# Altium footprint library Footprints.PcbLib: 37 footprints (part 3 of 3)
Each footprint in its own frame and in the unit in brackets; x right, y up, seen from the top. Pads: shape width x height; smd on the part's side, far side on the other; paste and mask are expansions set on the pad; w line width, h text height; cw(c..) or ccw(c..) is an arc to the next point about the centre after c.
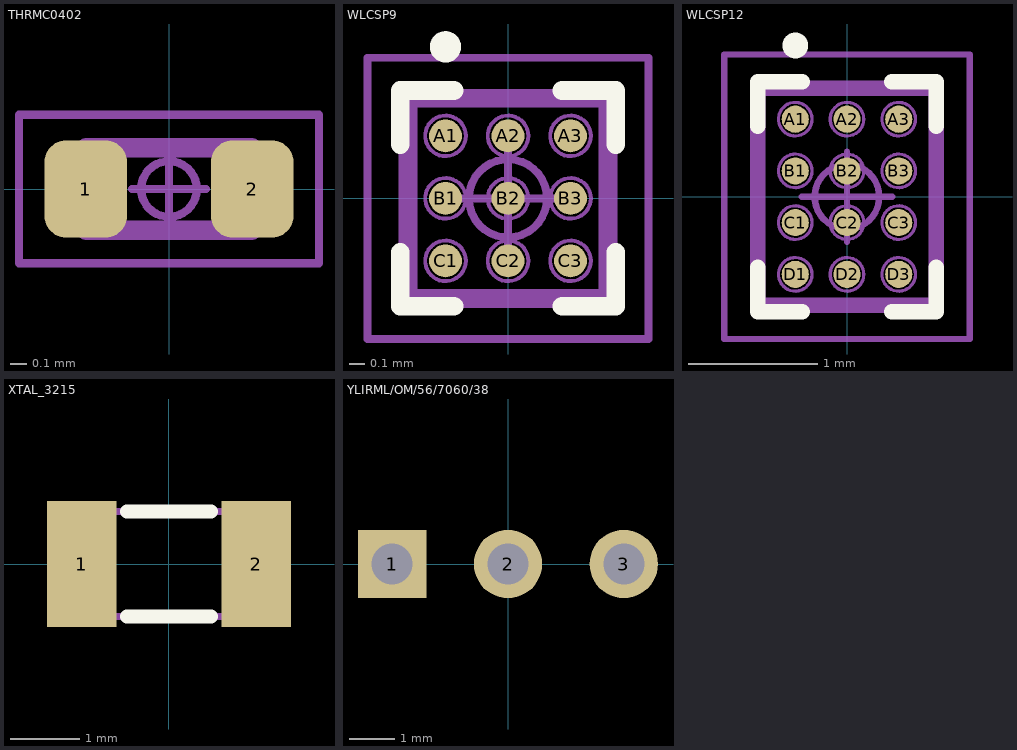
[diagram p2: the footprints below, top view; thin cyan lines are the x and y axes]

## THRMC0402 [mm] "THRMC0402"
height 0.35
pads (2):
  rrect52% 0.5x0.59 smd: 1(-0.505,0) 2(0.505,0)
Assembly Top:
  lines w0.12: -0.5,-0.25 -0.5,0.25 0.5,0.25 0.5,-0.25 -0.5,-0.25
3D Top:
  lines w0.025: -0.5,-0.25 -0.5,0.25 ; -0.5,-0.25 0.5,-0.25 ; -0.5,-0.25 -0.3,-0.25 -0.3,0.25 -0.5,0.25 ; -0.5,-0.25 -0.5,0.25 ; -0.5,0.25 0.5,0.25 ; 0.5,-0.25 0.5,0.25 ; 0.5,-0.25 0.5,0.25 ; 0.5,-0.25 0.3,-0.25 0.3,0.25 0.5,0.25
Courtyard Top:
  circle w0.05: c0,0 r0.169
  lines w0.05: -0.225,0 0.225,0 ; 0,-0.225 0,0.225 ; -0.91,-0.45 -0.91,0.45 0.91,0.45 0.91,-0.45 -0.91,-0.45
3D body "THRMC0402.STEP": height 0.35, standoff 0, extent -0.5,-0.25 0.5,0.25

## WLCSP9 [mm] "WLCSP9"
height 0.565
pads (9):
  round 0.21 smd: A1(-0.4,0.4) A2(0,0.4) A3(0.4,0.4) B1(-0.4,0) B2(0,0) B3(0.4,0) C1(-0.4,-0.4) C2(0,-0.4) C3(0.4,-0.4)
Top Overlay:
  circle w0.1: c-0.4,0.97 r0.05
  lines w0.12: -0.69,-0.345 -0.69,-0.69 -0.345,-0.69 ; -0.69,0.345 -0.69,0.69 -0.345,0.69 ; 0.345,-0.69 0.69,-0.69 0.69,-0.345 ; 0.345,0.69 0.69,0.69 0.69,0.345
Assembly Top:
  lines w0.12: -0.64,-0.64 0.64,-0.64 0.64,0.64 -0.64,0.64 -0.64,-0.64
3D Top:
  circle w0.025: c0.4,-0.4 r0.13
  circle w0.025: c0,-0.4 r0.13
  circle w0.025: c-0.4,-0.4 r0.13
  circle w0.025: c0.4,0 r0.13
  circle w0.025: c0,0 r0.13
  circle w0.025: c-0.4,0 r0.13
  circle w0.025: c0.4,0.4 r0.13
  circle w0.025: c0,0.4 r0.13
  circle w0.025: c-0.4,0.4 r0.13
  lines w0.025: -0.62,-0.62 0.62,-0.62 0.62,0.62 -0.62,0.62 -0.62,-0.62
Courtyard Top:
  circle w0.05: c0,0 r0.25
  lines w0.05: -0.35,0 0.35,0 ; 0,-0.35 0,0.35 ; -0.9,-0.9 0.9,-0.9 0.9,0.9 -0.9,0.9 -0.9,-0.9
3D body "BGA9CP40_3X3_124X124X56B26.STEP": height 0.57, standoff 0, extent -0.62,-0.62 0.62,0.62

## WLCSP12 [mm] "WLCSP12"
height 0.565
pads (12):
  round 0.21 smd: A1(-0.4,0.6) A2(0,0.6) A3(0.4,0.6) B1(-0.4,0.2) B2(0,0.2) B3(0.4,0.2) C1(-0.4,-0.2) C2(0,-0.2) C3(0.4,-0.2) D1(-0.4,-0.6) D2(0,-0.6) D3(0.4,-0.6)
Top Overlay:
  circle w0.1: c-0.4,1.17 r0.05
  lines w0.12: -0.69,-0.545 -0.69,-0.89 -0.345,-0.89 ; -0.69,0.545 -0.69,0.89 -0.345,0.89 ; 0.345,-0.89 0.69,-0.89 0.69,-0.545 ; 0.345,0.89 0.69,0.89 0.69,0.545
Assembly Top:
  lines w0.12: -0.69,-0.84 -0.69,0.84 0.69,0.84 0.69,-0.84 -0.69,-0.84
3D Top:
  circle w0.025: c0.4,-0.6 r0.13
  circle w0.025: c0,-0.6 r0.13
  circle w0.025: c-0.4,-0.6 r0.13
  circle w0.025: c0.4,-0.2 r0.13
  circle w0.025: c0,-0.2 r0.13
  circle w0.025: c-0.4,-0.2 r0.13
  circle w0.025: c0.4,0.2 r0.13
  circle w0.025: c0,0.2 r0.13
  circle w0.025: c-0.4,0.2 r0.13
  circle w0.025: c0.4,0.6 r0.13
  circle w0.025: c0,0.6 r0.13
  circle w0.025: c-0.4,0.6 r0.13
  lines w0.025: -0.675,-0.825 -0.675,0.825 0.675,0.825 0.675,-0.825 -0.675,-0.825
Courtyard Top:
  circle w0.05: c0,0 r0.25
  lines w0.05: -0.35,0 0.35,0 ; 0,-0.35 0,0.35 ; -0.95,-1.1 -0.95,1.1 0.95,1.1 0.95,-1.1 -0.95,-1.1
3D body "WLCSP12.STEP": height 0.57, standoff 0, extent -0.675,-0.825 0.675,0.825

## XTAL_3215 [mm] "XTAL SMD 3.2 x 1.5 mm"
height 0.8
pads (2):
  rect 1x1.8 smd: 1(-1.25,0) 2(1.25,0)
Top Overlay:
  lines w0.2: -0.6,-0.75 0.6,-0.75 ; -0.6,0.75 0.6,0.75
Mechanical 3:
  lines w0.1: -1.6,-0.55 cw(c-1.6,-0.75) -1.4,-0.75 1.4,-0.75 cw(c1.6,-0.75) 1.6,-0.55 1.6,0.55 cw(c1.6,0.75) 1.4,0.75 -1.4,0.75 cw(c-1.6,0.75) -1.6,0.55 -1.6,-0.55
3D body: height 0.81, standoff 0.15, extent -1.2,-0.6 1.2,0.6
3D body: height 0.81, standoff 0, extent -1.6,-0.75 1.6,0.75

## YLIRML/OM/56/7060/38 [mm]
pads (3):
  rect 1.5x1.5 hole 0.9: 1(-2.54,0)
  round 1.5 hole 0.9: 2(0,0) 3(2.54,0)
3D body: height 0.01, standoff -0.01, extent -2.55,-0.009 -2.53,0.01
3D body: height 0.01, standoff -0.01, extent -2.56,-0.019 -2.54,0
3D body "GFP20-308-IR-RECEIVER.step": height 11.47, standoff -0.82, extent -3,-4.1 3,1.5